# EAGLE library part OMCPWR (library omcPwrSupply)
24V DCDC Converter Module Step-down converter module 36.83mm x 22.86mm
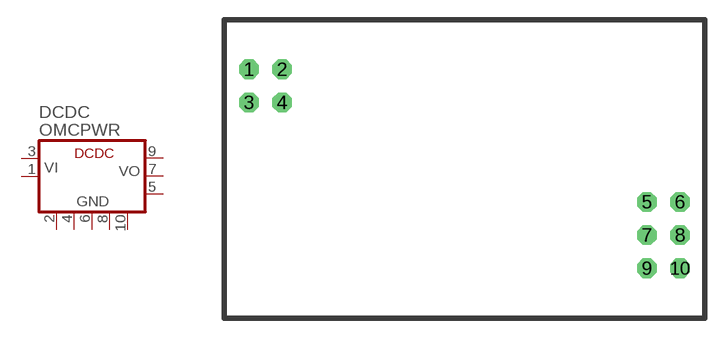
[diagram p14: symbol with the pads of OMCPWR1; footprint OMCPWR1]

Designator prefix DCDC

## OMCPWR (VALUE: 1A)  [OMCPWR1]
1  VI  in
2  GND  pwr
3  VI  in
4  GND  pwr
5  VO  pwr
6  GND  pwr
7  VO  pwr
8  GND  pwr
9  VO  pwr
10  GND  pwr

## Footprint OMCPWR1 (pad centres in mm)
PCB Modul Switching Regulator on PCB as power modul 36.83mm x 22.86mm
drill 1 octagon: 1 1.905,19.05; 2 4.445,19.05; 3 1.905,16.51; 4 4.445,16.51; 5 32.385,8.89; 6 34.925,8.89; 7 32.385,6.35; 8 34.925,6.35; 9 32.385,3.81; 10 34.925,3.81